# EAGLE library part PICO80J2_V2 (library JLB6_Connec)
Picocpu 80 points J2 (carte cpu)
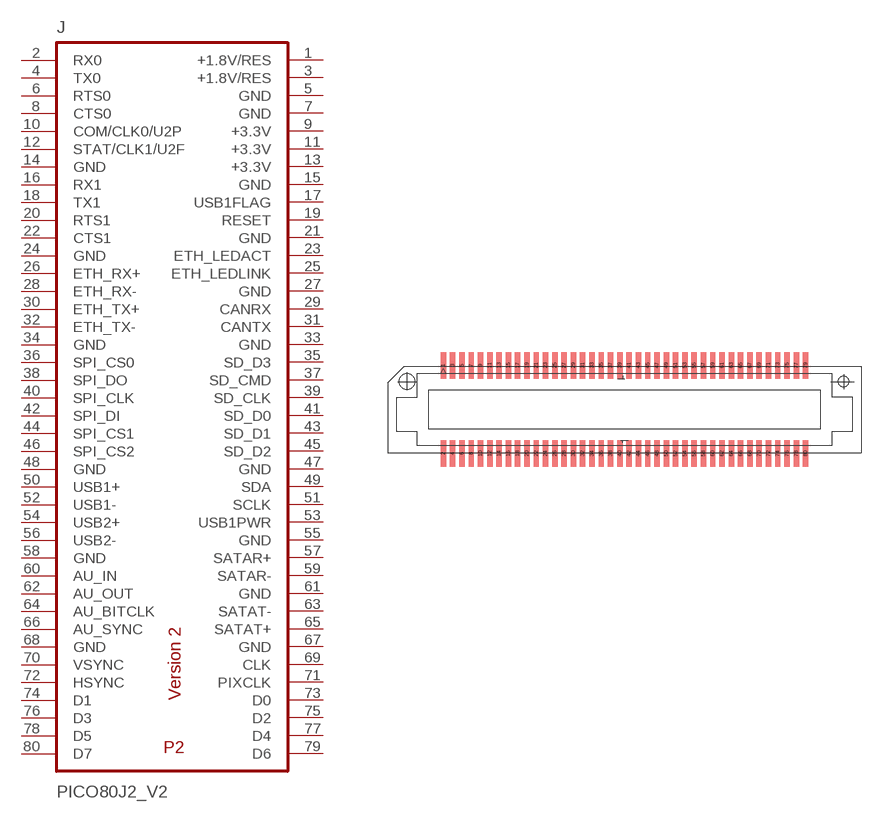
[diagram p39: symbol with the pads of FX8C-80S; footprint FX8C-80S]

Designator prefix J

## PICO80J2_V2  [FX8C-80S]
1  +1.8V/RES
2  RX0
3  +1.8V/RES
4  TX0
5  GND  pwr
6  RTS0
7  GND  pwr
8  CTS0
9  +3.3V  pwr
10  COM/CLK0/U2P
11  +3.3V  pwr
12  STAT/CLK1/U2F
13  +3.3V  pwr
14  GND  pwr
15  GND  pwr
16  RX1
17  USB1FLAG
18  TX1
19  RESET
20  RTS1
21  GND  pwr
22  CTS1
23  ETH_LEDACT
24  GND  pwr
25  ETH_LEDLINK
26  ETH_RX+
27  GND  pwr
28  ETH_RX-
29  CANRX
30  ETH_TX+
31  CANTX
32  ETH_TX-
33  GND  pwr
34  GND  pwr
35  SD_D3
36  SPI_CS0
37  SD_CMD
38  SPI_DO
39  SD_CLK
40  SPI_CLK
41  SD_D0
42  SPI_DI
43  SD_D1
44  SPI_CS1
45  SD_D2
46  SPI_CS2
47  GND  pwr
48  GND  pwr
49  SDA
50  USB1+
51  SCLK
52  USB1-
53  USB1PWR
54  USB2+
55  GND  pwr
56  USB2-
57  SATAR+
58  GND  pwr
59  SATAR-
60  AU_IN
61  GND
62  AU_OUT
63  SATAT-
64  AU_BITCLK
65  SATAT+
66  AU_SYNC
67  GND  pwr
68  GND  pwr
69  CLK
70  VSYNC
71  PIXCLK
72  HSYNC
73  D0
74  D1
75  D2
76  D3
77  D4
78  D5
79  D6
80  D7

## Footprint FX8C-80S (pad centres in mm)
smd 0.35 x 1.7: 1 -11.7,2.848; 2 -11.7,-2.848; 3 -11.1,2.848; 4 -11.1,-2.848; 5 -10.5,2.848; 6 -10.5,-2.848; 7 -9.9,2.848; 8 -9.9,-2.848; 9 -9.3,2.848; 10 -9.3,-2.848; 11 -8.7,2.848; 12 -8.7,-2.848; 13 -8.1,2.848; 14 -8.1,-2.848; 15 -7.5,2.848; 16 -7.5,-2.848; 17 -6.9,2.848; 18 -6.9,-2.848; 19 -6.3,2.848; 20 -6.3,-2.848; 21 -5.7,2.848; 22 -5.7,-2.848; 23 -5.1,2.848; 24 -5.1,-2.848; 25 -4.5,2.848; 26 -4.5,-2.848; 27 -3.9,2.848; 28 -3.9,-2.848; 29 -3.3,2.848; 30 -3.3,-2.848; 31 -2.7,2.848; 32 -2.7,-2.848; 33 -2.1,2.848; 34 -2.1,-2.848; 35 -1.5,2.848; 36 -1.5,-2.848; 37 -0.9,2.848; 38 -0.9,-2.848; 39 -0.3,2.848; 40 -0.3,-2.848; 41 0.3,2.848; 42 0.3,-2.848; 43 0.9,2.848; 44 0.9,-2.848; 45 1.5,2.848; 46 1.5,-2.848; 47 2.1,2.848; 48 2.1,-2.848; 49 2.7,2.848; 50 2.7,-2.848; 51 3.3,2.848; 52 3.3,-2.848; 53 3.9,2.848; 54 3.9,-2.848; 55 4.5,2.848; 56 4.5,-2.848; 57 5.1,2.848; 58 5.1,-2.848; 59 5.7,2.848; 60 5.7,-2.848; 61 6.3,2.848; 62 6.3,-2.848; 63 6.9,2.848; 64 6.9,-2.848; 65 7.5,2.848; 66 7.5,-2.848; 67 8.1,2.848; 68 8.1,-2.848; 69 8.7,2.848; 70 8.7,-2.848; 71 9.3,2.848; 72 9.3,-2.848; 73 9.9,2.848; 74 9.9,-2.848; 75 10.5,2.848; 76 10.5,-2.848; 77 11.1,2.848; 78 11.1,-2.848; 79 11.7,2.848; 80 11.7,-2.848
hole 0.991 at -14.049,1.803
hole 0.686 at 14.149,1.803